# Altium schematic symbol library SCH - POWER - SWITCHMODE - TI TPS60133_PWP_20.SchLib: 1 symbol
Pins are listed as number, name and electrical type; pins without a type are passive.

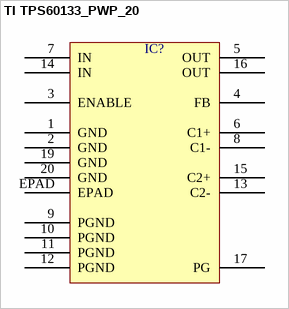
[diagram p0: symbol TI TPS60133_PWP_20]

## TI TPS60133_PWP_20
designator IC?  (value not drawn)
pins: 1 GND, 2 GND, 3 ENABLE, 4 FB, 5 OUT, 6 C1+, 7 IN, 8 C1-, 9 PGND, 10 PGND, 11 PGND, 12 PGND, 13 C2-, 14 IN, 15 C2+, 16 OUT, 17 PG, 19 GND, 20 GND, EPAD